# Altium schematic symbol library QuickRotor_V1.SCHLIB: 58 symbols
Pins are listed as number, name and electrical type; pins without a type are passive.

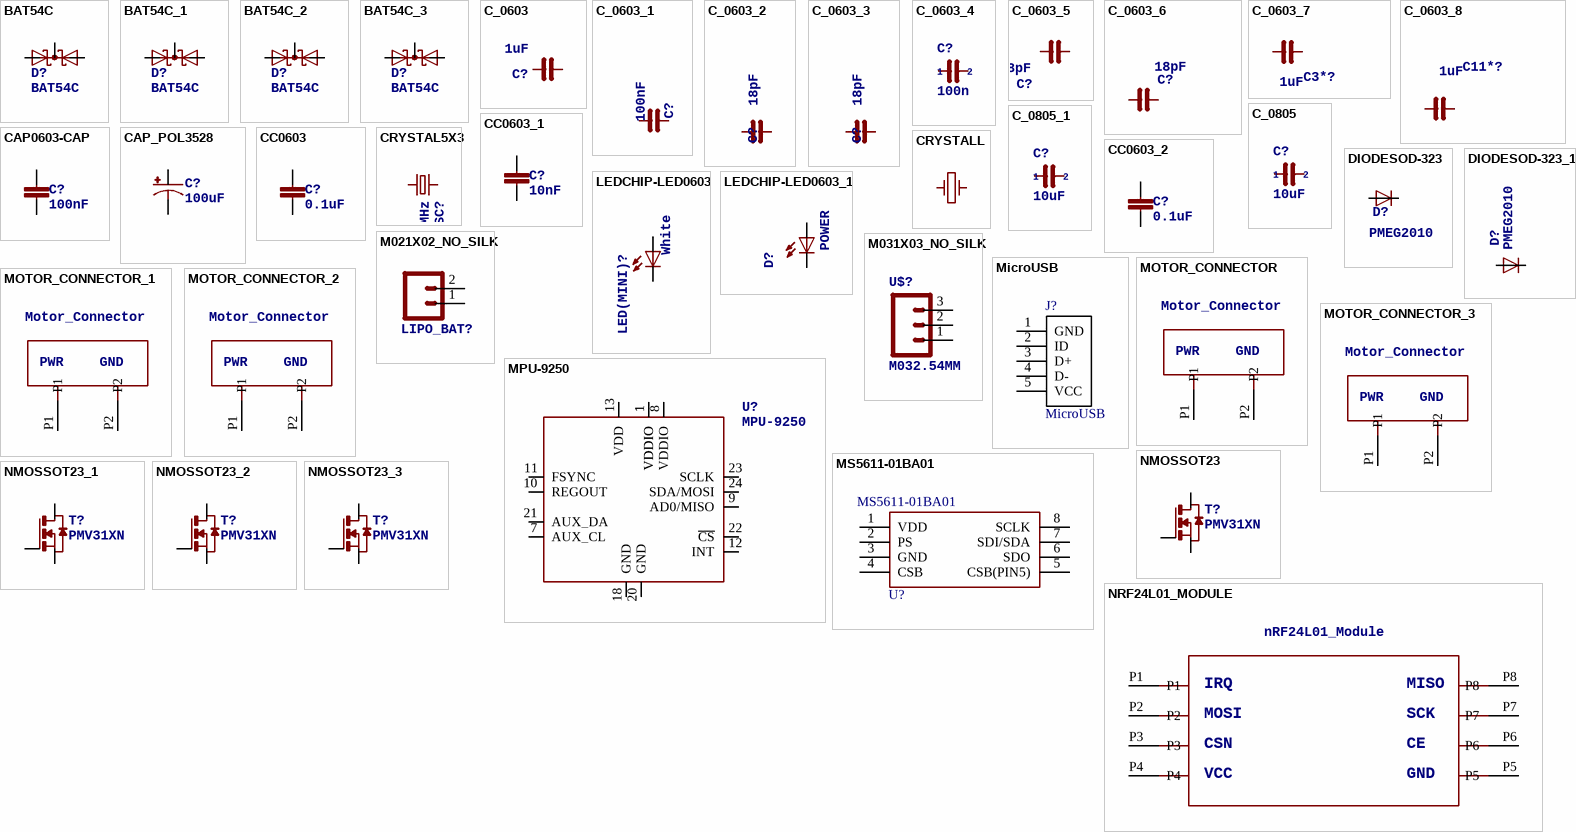
[diagram p0: symbols BAT54C to NRF24L01_MODULE]

## BAT54C
designator D?
Schottky Diodes   Source: Fairchild .. BAT54.pdf
footprint SOT23
pins: 1 A1, 2 A2, 3 CC

## BAT54C_1
designator D?, comment BAT54C
Schottky Diodes   Source: Fairchild .. BAT54.pdf
footprint SOT23
pins: 1 A1, 2 A2, 3 CC

## BAT54C_2
designator D?, comment BAT54C
Schottky Diodes   Source: Fairchild .. BAT54.pdf
footprint SOT23
pins: 1 A1, 2 A2, 3 CC

## BAT54C_3
designator D?, comment BAT54C
Schottky Diodes   Source: Fairchild .. BAT54.pdf
footprint SOT23
pins: 1 A1, 2 A2, 3 CC

## C_0603
designator C?, comment 1uF
NON-POLARIZED CAP
footprint 0603-CAP
pins: 1, 2

## C_0603_1
designator C?, comment 100nF
NON-POLARIZED CAP
footprint 0603-CAP
pins: 1, 2

## C_0603_2
designator C?, comment 18pF
NON-POLARIZED CAP
footprint 0603-CAP
pins: 1, 2

## C_0603_3
designator C?, comment 18pF
NON-POLARIZED CAP
footprint 0603-CAP
pins: 1, 2

## C_0603_4
designator C?, comment 100n
NON-POLARIZED CAP; 1: 1; 2: 2
footprint 0603-CAP
pins: 1, 2

## C_0603_5
designator C?, comment 18pF
NON-POLARIZED CAP
footprint 0603-CAP
pins: 1, 2

## C_0603_6
designator C?, comment 18pF
NON-POLARIZED CAP
footprint 0603-CAP
pins: 1, 2

## C_0603_7
designator C3*?, comment 1uF
NON-POLARIZED CAP
footprint 0603-CAP
pins: 1, 2

## C_0603_8
designator C11*?, comment 1uF
NON-POLARIZED CAP
footprint 0603-CAP
pins: 1, 2

## C_0805
designator C?, comment 10uF
NON-POLARIZED CAP; 1: 1; 2: 2
footprint 0805-CAP (C0805)
pins: 1, 2

## C_0805_1
designator C?, comment 10uF
NON-POLARIZED CAP; 1: 1; 2: 2
footprint 0603-CAP
pins: 1, 2

## CAP0603-CAP
designator C?, comment 100nF
CapacitorStandard 0603 ceramic capacitor, and 0.1" leaded capacitor.
footprint 0603-CAP
pins: 1, 2

## CAP_POL3528
designator C?, comment 100uF
Capacitor PolarizedThese are standard SMD and PTH capacitors. Normally 10uF, 47uF, and 100uF in electrolytic and tantalum varieties. Always verify the external diameter of the through hole cap, it varies with capacity, voltage, and manufacturer. The EIA devices should be standard.
footprint EIA3528
pins: A +, C -

## CC0603
designator C?, comment 0.1uF
CAPACITOR, European symbol; SPICEMODEL: NONE; SPICEPREFIX: C; SpiceOrder1: SpiceOrder 1; SpiceOrder2: SpiceOrder 2
footprint 0603-CAP
pins: 1, 2

## CC0603_1
designator C?, comment 10nF
CAPACITOR, European symbol; SPICEMODEL: NONE; SPICEPREFIX: C; SpiceOrder1: SpiceOrder 1; SpiceOrder2: SpiceOrder 2
footprint 0603-CAP
pins: 1, 2

## CC0603_2
designator C?, comment 0.1uF
CAPACITOR, European symbol; SPICEMODEL: NONE; SPICEPREFIX: C; SpiceOrder1: SpiceOrder 1; SpiceOrder2: SpiceOrder 2
footprint 0603-CAP
pins: 1, 2

## CRYSTAL5X3
designator OSC?, comment 8MHz
CrystalsVarious standard crystals. Proven footprints. Spark Fun Electronics SKU : COM-00534
footprint CRYSTAL-SMD-5X3
pins: 1, 3 2

## CRYSTALL
designator OSC?, comment 32768kHz  (value not drawn)
footprint KX-327LT
pins: 1 P$1, 4 P$2

## DIODESOD-323
designator D?, comment PMEG2010
Diode   SMADIODE - SMA Surface Mount Package  20V 1A Schottky Diode Digikey: 641-1014-6-ND    DO-1N4148 - Through Hole Small Current Diode SOD-123 20V 1 A (.5mV Vf) Schottky Diode - Digikey: MBRX120TPMSCT-ND    SOD-323 10V 570mA (.38mV Vf, 3ns) Schottky Diode - Digikey: ZLLS410CT-ND    SOD-523 30V 30mA Schottky Diode (RB751S-40TE61) - Digikey: RB751S-40TE61CT-ND    SOT23-R/W - SOT23 Package (R = Solder Paste/Reflow Ovens, W = Hand-Soldering)  BAT54Film 40V 300mA - Digikey: 497-7162-1-ND
footprint SOD-323
pins: A, C

## DIODESOD-323_1
designator D?, comment PMEG2010
Diode   SMADIODE - SMA Surface Mount Package  20V 1A Schottky Diode Digikey: 641-1014-6-ND    DO-1N4148 - Through Hole Small Current Diode SOD-123 20V 1 A (.5mV Vf) Schottky Diode - Digikey: MBRX120TPMSCT-ND    SOD-323 10V 570mA (.38mV Vf, 3ns) Schottky Diode - Digikey: ZLLS410CT-ND    SOD-523 30V 30mA Schottky Diode (RB751S-40TE61) - Digikey: RB751S-40TE61CT-ND    SOT23-R/W - SOT23 Package (R = Solder Paste/Reflow Ovens, W = Hand-Soldering)  BAT54Film 40V 300mA - Digikey: 497-7162-1-ND
footprint SOD-323
pins: A, C

## LEDCHIP-LED0603
designator LED(MINI)?, comment White
LED   OSRAM: - CHIPLED LG R971, LG N971, LY N971, LG Q971, LY Q971, LO R971, LY R971 LH N974, LH R974 LS Q976, LO Q976, LY Q976 LO Q996 - Hyper CHIPLED LW Q18S LB Q993, LB Q99A, LB R99A - SideLED LS A670, LO A670, LY A670, LG A670, LP A670 LB A673, LV A673, LT A673, LW A673 LH A674 LY A675 LS A676, LA A676, LO A676, LY A676, LW A676 LS A679, LY A679, LG A679 -  Hyper Micro SIDELED® LS Y876, LA Y876, LO Y876, LY Y876 LT Y87S - SmartLED LW L88C, LW L88S LB L89C, LB L89S, LG L890 LS L89K, LO L89K, LY L89K LS L896, LA L896, LO L896, LY L896 - TOPLED LS T670, LO T670, LY T670, LG T670, LP T670 LSG T670, LSP T670, LSY T670, LOP T670, LYG T670 LG T671, LOG T671, LSG T671 LB T673, LV T673, LT T673, LW T673 LH T674 LS T676, LA T676, LO T676, LY T676, LB T676, LH T676, LSB T676, LW T676 LB T67C, LV T67C, LT T67C, LS T67K, LO T67K, LY T67K, LW E67C LS E67B, LA E67B, LO E67B, LY E67B, LB E67C, LV E67C, LT E67C LW T67C LS T679, LY T679, LG T679 LS T770, LO T770, LY T770, LG T770, LP T770 LB T773, LV T773, LT T773, LW T773 LH T774 LS E675, LA E675, LY E675, LS T675 LS T776, LA T776, LO T776, LY T776, LB T776 LHGB T686 LT T68C, LB T68C - Hyper Mini TOPLED® LB M676 - Mini TOPLED Santana® LG M470 LS M47K, LO M47K, LY M47K    Source: http://www.osram.convergy.de   LUXEON: - LUMILED® LXK2-PW12-R00, LXK2-PW12-S00, LXK2-PW14-U00, LXK2-PW14-V00 LXK2-PM12-R00, LXK2-PM12-S00, LXK2-PM14-U00 LXK2-PE12-Q00, LXK2-PE12-R00, LXK2-PE12-S00, LXK2-PE14-T00, LXK2-PE14-U00 LXK2-PB12-K00, LXK2-PB12-L00, LXK2-PB12-M00, LXK2-PB14-N00, LXK2-PB14-P00, LXK2-PB14-Q00 LXK2-PR12-L00, LXK2-PR12-M00, LXK2-PR14-Q00, LXK2-PR14-R00 LXK2-PD12-Q00, LXK2-PD12-R00, LXK2-PD12-S00 LXK2-PH12-R00, LXK2-PH12-S00 LXK2-PL12-P00, LXK2-PL12-Q00, LXK2-PL12-R00    Source: www.luxeon.com   KINGBRIGHT:   KA-3528ASYC Source: www.kingbright.com
footprint CHIP-LED0603
pins: A, C

## LEDCHIP-LED0603_1
designator D?, comment POWER
LED   OSRAM: - CHIPLED LG R971, LG N971, LY N971, LG Q971, LY Q971, LO R971, LY R971 LH N974, LH R974 LS Q976, LO Q976, LY Q976 LO Q996 - Hyper CHIPLED LW Q18S LB Q993, LB Q99A, LB R99A - SideLED LS A670, LO A670, LY A670, LG A670, LP A670 LB A673, LV A673, LT A673, LW A673 LH A674 LY A675 LS A676, LA A676, LO A676, LY A676, LW A676 LS A679, LY A679, LG A679 -  Hyper Micro SIDELED® LS Y876, LA Y876, LO Y876, LY Y876 LT Y87S - SmartLED LW L88C, LW L88S LB L89C, LB L89S, LG L890 LS L89K, LO L89K, LY L89K LS L896, LA L896, LO L896, LY L896 - TOPLED LS T670, LO T670, LY T670, LG T670, LP T670 LSG T670, LSP T670, LSY T670, LOP T670, LYG T670 LG T671, LOG T671, LSG T671 LB T673, LV T673, LT T673, LW T673 LH T674 LS T676, LA T676, LO T676, LY T676, LB T676, LH T676, LSB T676, LW T676 LB T67C, LV T67C, LT T67C, LS T67K, LO T67K, LY T67K, LW E67C LS E67B, LA E67B, LO E67B, LY E67B, LB E67C, LV E67C, LT E67C LW T67C LS T679, LY T679, LG T679 LS T770, LO T770, LY T770, LG T770, LP T770 LB T773, LV T773, LT T773, LW T773 LH T774 LS E675, LA E675, LY E675, LS T675 LS T776, LA T776, LO T776, LY T776, LB T776 LHGB T686 LT T68C, LB T68C - Hyper Mini TOPLED® LB M676 - Mini TOPLED Santana® LG M470 LS M47K, LO M47K, LY M47K    Source: http://www.osram.convergy.de   LUXEON: - LUMILED® LXK2-PW12-R00, LXK2-PW12-S00, LXK2-PW14-U00, LXK2-PW14-V00 LXK2-PM12-R00, LXK2-PM12-S00, LXK2-PM14-U00 LXK2-PE12-Q00, LXK2-PE12-R00, LXK2-PE12-S00, LXK2-PE14-T00, LXK2-PE14-U00 LXK2-PB12-K00, LXK2-PB12-L00, LXK2-PB12-M00, LXK2-PB14-N00, LXK2-PB14-P00, LXK2-PB14-Q00 LXK2-PR12-L00, LXK2-PR12-M00, LXK2-PR14-Q00, LXK2-PR14-R00 LXK2-PD12-Q00, LXK2-PD12-R00, LXK2-PD12-S00 LXK2-PH12-R00, LXK2-PH12-S00 LXK2-PL12-P00, LXK2-PL12-Q00, LXK2-PL12-R00    Source: www.luxeon.com   KINGBRIGHT:   KA-3528ASYC Source: www.kingbright.com
footprint CHIP-LED0603
pins: A, C

## M021X02_NO_SILK
designator LIPO_BAT?  (value not drawn)
Header 2Standard 2-pin 0.1" header. Use with straight break away headers (SKU : PRT-00116), right angle break away headers (PRT-00553), swiss pins (PRT-00743), machine pins (PRT-00117), and female headers (PRT-00115). Molex polarized connector foot print use with SKU : PRT-08233 with associated crimp pins and housings.
footprint 1X02_NO_SILK
pins: 1, 2

## M031X03_NO_SILK
designator U$?, comment M032.54MM
Header 3Standard 3-pin 0.1" header. Use with straight break away headers (SKU : PRT-00116), right angle break away headers (PRT-00553), swiss pins (PRT-00743), machine pins (PRT-00117), and female headers (PRT-00115). Molex polarized connector foot print use with SKU : PRT-08232 with associated crimp pins and housings.
footprint 1X03_NO_SILK
pins: 1, 2, 3

## MicroUSB
designator J?
Imported
footprint MicroUSB
footprint MicroUSB
pins: 1 GND, 2 ID, 3 D+, 4 D-, 5 VCC

## MOTOR_CONNECTOR
designator U$?
Motor_Connector: Motor_Connector; PWR: PWR; GND: GND
footprint MOTOR_CONNECTOR
pins: P1, P2

## MOTOR_CONNECTOR_1
designator U$?, comment MOTOR_CONNECTOR
Motor_Connector: Motor_Connector; PWR: PWR; GND: GND
footprint MOTOR_CONNECTOR
pins: P1, P2

## MOTOR_CONNECTOR_2
designator U$?, comment MOTOR_CONNECTOR
Motor_Connector: Motor_Connector; PWR: PWR; GND: GND
footprint MOTOR_CONNECTOR
pins: P1, P2

## MOTOR_CONNECTOR_3
designator U$?, comment MOTOR_CONNECTOR
Motor_Connector: Motor_Connector; PWR: PWR; GND: GND
footprint MOTOR_CONNECTOR
pins: P1, P2

## MPU-9250
designator U?
GYRO/ACCEL/COMPASS/9-AXIS; DIGIKEY: 1428-1019-1-ND
footprint QFN-24/3MM
pins: 1 VDDIO, 1 VDDIO, 7 AUX_CL, 8 VDDIO, 9 AD0/MISO, 10 REGOUT, 11 FSYNC, 12 INT, 13 VDD, 18 GND, 20 GND, 21 AUX_DA, 22 ~{CS}, 23 SCLK, 24 SDA/MOSI

## MS5611-01BA01
designator U?
footprint MS5611-01BA01
pins: 1 VDD, 2 PS, 3 GND, 4 CSB, 5 CSB(PIN5), 6 SDO, 7 SDI/SDA, 8 SCLK

## NMOSSOT23
designator T?, comment PMV31XN
MOS FET; OC_FARNELL: unknown; OC_NEWARK: unknown
footprint SOT-23
pins: 1 D, 2 S, 3 G

## NMOSSOT23_1
designator T?, comment PMV31XN
MOS FET; OC_FARNELL: unknown; OC_NEWARK: unknown
footprint SOT-23
pins: 1 D, 2 S, 3 G

## NMOSSOT23_2
designator T?, comment PMV31XN
MOS FET; OC_FARNELL: unknown; OC_NEWARK: unknown
footprint SOT-23
pins: 1 D, 2 S, 3 G

## NMOSSOT23_3
designator T?, comment PMV31XN
MOS FET; OC_FARNELL: unknown; OC_NEWARK: unknown
footprint SOT-23
pins: 1 D, 2 S, 3 G

## NRF24L01_MODULE
designator 24L?
nRF24L01_Module: nRF24L01_Module; IRQ: IRQ; MOSI: MOSI; CSN: CSN; VCC: VCC; GND: GND; CE: CE; SCK: SCK; MISO: MISO
footprint NRF24L01_MODULE
pins: P1, P2, P3, P4, P5, P6, P7, P8

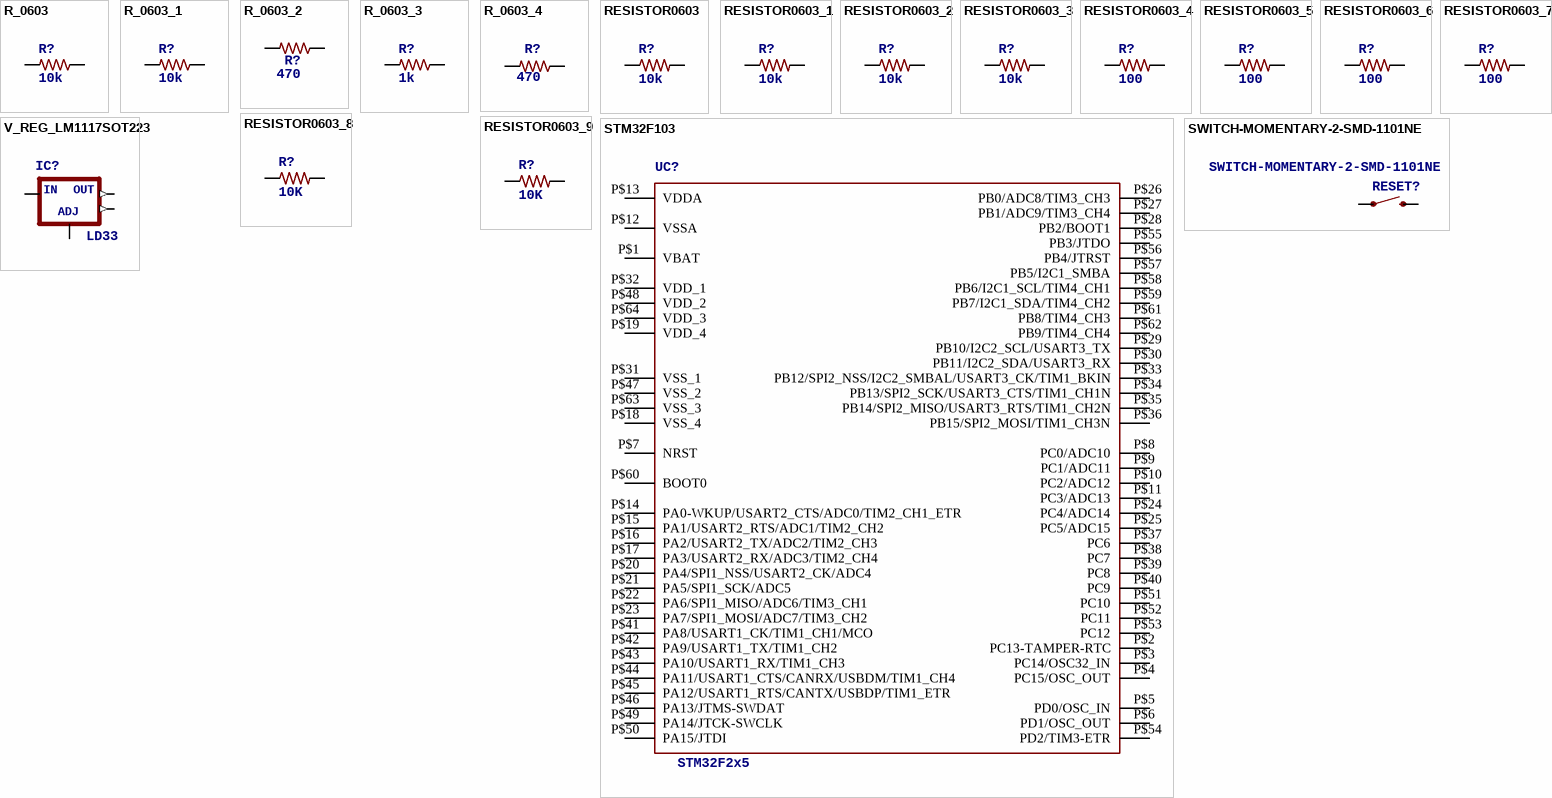
[diagram p1: symbols R_0603 to V_REG_LM1117SOT223]

## R_0603
designator R?, comment 10k
RESISTOR
footprint 0603-RES
pins: 1, 2

## R_0603_1
designator R?, comment 10k
RESISTOR
footprint 0603-RES
pins: 1, 2

## R_0603_2
designator R?, comment 470
RESISTOR
footprint 0603-RES
pins: 1, 2

## R_0603_3
designator R?, comment 1k
RESISTOR
footprint 0603-RES
pins: 1, 2

## R_0603_4
designator R?, comment 470
RESISTOR
footprint 0603-RES
pins: 1, 2

## RESISTOR0603
designator R?, comment 10k
ResistorBasic schematic elements and footprints for 0603, 1206, and PTH resistors.
footprint 0603-RES
pins: 1, 2

## RESISTOR0603_1
designator R?, comment 10k
ResistorBasic schematic elements and footprints for 0603, 1206, and PTH resistors.
footprint 0603-RES
pins: 1, 2

## RESISTOR0603_2
designator R?, comment 10k
ResistorBasic schematic elements and footprints for 0603, 1206, and PTH resistors.
footprint 0603-RES
pins: 1, 2

## RESISTOR0603_3
designator R?, comment 10k
ResistorBasic schematic elements and footprints for 0603, 1206, and PTH resistors.
footprint 0603-RES
pins: 1, 2

## RESISTOR0603_4
designator R?, comment 100
ResistorBasic schematic elements and footprints for 0603, 1206, and PTH resistors.
footprint 0603-RES
pins: 1, 2

## RESISTOR0603_5
designator R?, comment 100
ResistorBasic schematic elements and footprints for 0603, 1206, and PTH resistors.
footprint 0603-RES
pins: 1, 2

## RESISTOR0603_6
designator R?, comment 100
ResistorBasic schematic elements and footprints for 0603, 1206, and PTH resistors.
footprint 0603-RES
pins: 1, 2

## RESISTOR0603_7
designator R?, comment 100
ResistorBasic schematic elements and footprints for 0603, 1206, and PTH resistors.
footprint 0603-RES
pins: 1, 2

## RESISTOR0603_8
designator R?, comment 10K
ResistorBasic schematic elements and footprints for 0603, 1206, and PTH resistors.
footprint 0603-RES
pins: 1, 2

## RESISTOR0603_9
designator R?, comment 10K
ResistorBasic schematic elements and footprints for 0603, 1206, and PTH resistors.
footprint 0603-RES
pins: 1, 2

## STM32F103
designator UC?, comment STM32F2x5
footprint TQFP-10X10-64
pins: P$1 VBAT (power), P$2 PC13-TAMPER-RTC, P$3 PC14/OSC32_IN, P$4 PC15/OSC_OUT, P$5 PD0/OSC_IN, P$6 PD1/OSC_OUT, P$7 NRST, P$8 PC0/ADC10, P$9 PC1/ADC11, P$10 PC2/ADC12, P$11 PC3/ADC13, P$12 VSSA (power), P$13 VDDA (power), P$14 PA0-WKUP/USART2_CTS/ADC0/TIM2_CH1_ETR, P$15 PA1/USART2_RTS/ADC1/TIM2_CH2, P$16 PA2/USART2_TX/ADC2/TIM2_CH3, P$17 PA3/USART2_RX/ADC3/TIM2_CH4, P$18 VSS_4 (power), P$19 VDD_4 (power), P$20 PA4/SPI1_NSS/USART2_CK/ADC4, P$21 PA5/SPI1_SCK/ADC5, P$22 PA6/SPI1_MISO/ADC6/TIM3_CH1, P$23 PA7/SPI1_MOSI/ADC7/TIM3_CH2, P$24 PC4/ADC14, P$25 PC5/ADC15, P$26 PB0/ADC8/TIM3_CH3, P$27 PB1/ADC9/TIM3_CH4, P$28 PB2/BOOT1, P$29 PB10/I2C2_SCL/USART3_TX, P$30 PB11/I2C2_SDA/USART3_RX, P$31 VSS_1 (power), P$32 VDD_1 (power), P$33 PB12/SPI2_NSS/I2C2_SMBAL/USART3_CK/TIM1_BKIN, P$34 PB13/SPI2_SCK/USART3_CTS/TIM1_CH1N, P$35 PB14/SPI2_MISO/USART3_RTS/TIM1_CH2N, P$36 PB15/SPI2_MOSI/TIM1_CH3N, P$37 PC6, P$38 PC7, P$39 PC8, P$40 PC9, P$41 PA8/USART1_CK/TIM1_CH1/MCO, P$42 PA9/USART1_TX/TIM1_CH2, P$43 PA10/USART1_RX/TIM1_CH3, P$44 PA11/USART1_CTS/CANRX/USBDM/TIM1_CH4, P$45 PA12/USART1_RTS/CANTX/USBDP/TIM1_ETR, P$46 PA13/JTMS-SWDAT, P$47 VSS_2 (power), P$48 VDD_2 (power), P$49 PA14/JTCK-SWCLK, P$50 PA15/JTDI, P$51 PC10, P$52 PC11, P$53 PC12, P$54 PD2/TIM3-ETR, P$55 PB3/JTDO, P$56 PB4/JTRST, P$57 PB5/I2C1_SMBA, P$58 PB6/I2C1_SCL/TIM4_CH1, P$59 PB7/I2C1_SDA/TIM4_CH2, P$60 BOOT0, P$61 PB8/TIM4_CH3, P$62 PB9/TIM4_CH4, P$63 VSS_3 (power), P$64 VDD_3 (power)

## SWITCH-MOMENTARY-2-SMD-1101NE
designator RESET?
footprint TACTILE-SWITCH-1101NE
pins: P$1 1, P$2 2

## V_REG_LM1117SOT223
designator IC?, comment LD33
Voltage Regulator LM1117Standard adjustable voltage regulator but in SMD form. Spark Fun Electronics SKU : COM-00595; ADJ: ADJ; IN: IN; OUT: OUT
footprint SOT223
pins: 1 ADJ, 2 OUT (out), 3 IN, 4 OUT (out)